# EAGLE library part LTC3854 (library PowerProducts)
Small Footprint, Wide VIN Range Synchronous Step-Down DC/DC Controller
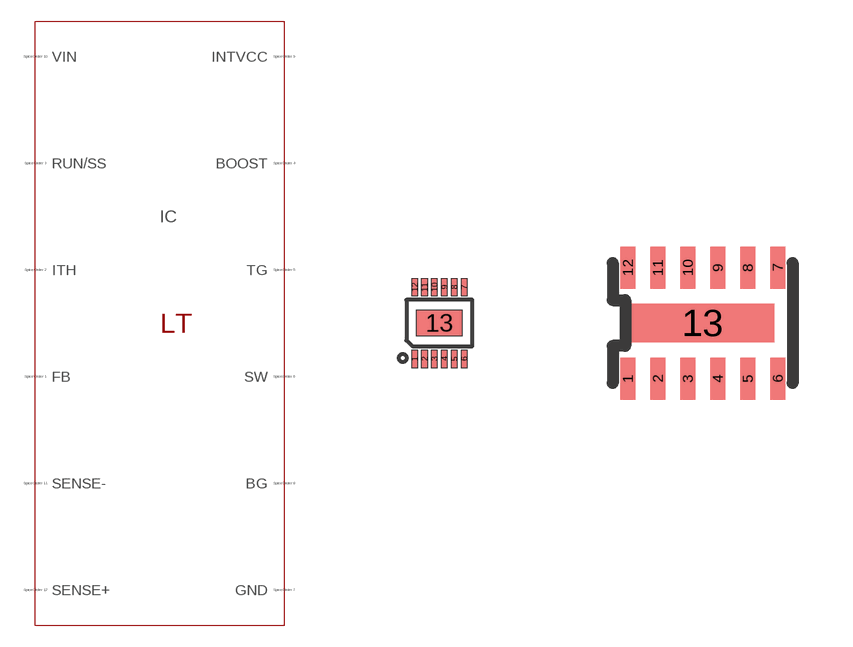
[diagram p370: symbol with the pads of MSOP12(MSE); footprints MSOP12(MSE), DFN12(DDB)]

Designator prefix IC

## LTC3854MSE (SPICEMODEL: LTC3854.sub; SPICEPREFIX: X; VALUE2: LTC3854)  [MSOP12(MSE)]
1  FB  pas
2  ITH  pas
3  RUN/SS  pas
4  BOOST  pas
5  TG  pas
6  SW  pas
7  GND  pas
8  BG  pas
9  INTVCC  pas
10  VIN  pas
11  SENSE-  pas
12  SENSE+  pas
13  GND  pas

## LTC3854 (SPICEMODEL: LTC3854.sub; SPICEPREFIX: X; VALUE2: LTC3854)  [DFN12(DDB)]
Pads as for MSOP12(MSE)

## Footprint MSOP12(MSE) (pad centres in mm)
Package generated from: MSOP12(MSE).asc (!PADS-POWERPCB-V9.3-BASIC! DESIGN DATABASE ASCII FILE 1.0) with :import-pads-powerpcb-v5.ulp Version 1.0.1 at 04.10.2012 14:11:19
smd 0.165 x 0.435: 1 -0.619,-0.895; 2 -0.372,-0.895; 3 -0.124,-0.895; 4 0.124,-0.895; 5 0.372,-0.895; 6 0.619,-0.895; 7 0.619,0.895; 8 0.372,0.895; 9 0.124,0.895; 10 -0.124,0.895; 11 -0.372,0.895; 12 -0.619,0.895
smd 1.161 x 0.629: 13 0,0

## Footprint DFN12(DDB) (pad centres in mm)
Package generated from: DFN12(DDB).asc (!PADS-POWERPCB-V5.0-BASIC! DESIGN DATABASE ASCII FILE 1.0) with :import-pads-powerpcb-v5.ulp Version 1.0.1 at 04.10.2012 14:11:16
smd 0.375 x 1.05: 1 -1.875,-1.387; 2 -1.125,-1.387; 3 -0.375,-1.387; 4 0.375,-1.387; 5 1.125,-1.387; 6 1.875,-1.387; 7 1.875,1.387; 8 1.125,1.387; 9 0.375,1.387; 10 -0.375,1.387; 11 -1.125,1.387; 12 -1.875,1.387
smd 3.585 x 0.96: 13 0,0